# Altium schematic symbol library KMR221NG_LFS.SchLib: 1 symbol
Pins are listed as number, name and electrical type; pins without a type are passive.

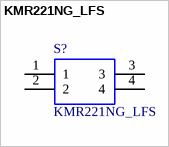
[diagram p0: symbol KMR221NG_LFS]

## KMR221NG_LFS
designator S?
Tactile Switches Tact; Manufacturer_Name: C & K COMPONENTS; Manufacturer_Part_Number: KMR221NG LFS; RS Part Number: 1359490; RS Price/Stock: http://uk.rs-online.com/web/p/products/1359490; Arrow Part Number: KMR221NG LFS; Arrow Price/Stock: https://www.arrow.com/en/products/kmr221nglfs/ck; Datasheet Link: http://www.ckswitches.com/media/1479/kmr2.pdf
footprint KMR2_1
pins: 1, 2, 3, 4